# EAGLE library part S25FLXXXK (library lib_stankus)
Spansion S25FLxxxK flash memory Farnell 2340553, 2340554
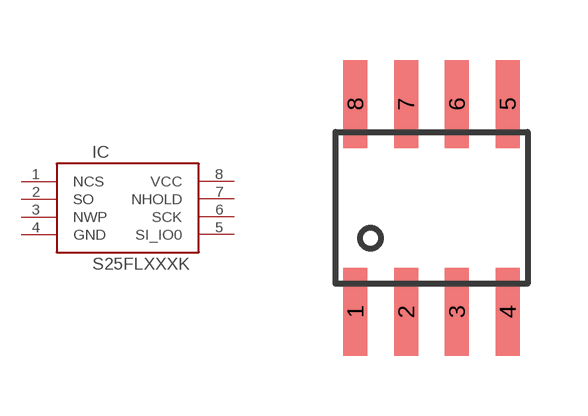
[diagram p85: symbol with the pads of SOIC8; footprint SOIC8]

Designator prefix IC

## S25FLXXXK-SOIC8  [SOIC8]
1  NCS  pas
2  SO  pas
3  NWP  pas
4  GND  pas
5  SI_IO0  pas
6  SCK  pas
7  NHOLD  pas
8  VCC  pas

## Footprint SOIC8 (pad centres in mm)
SOIC8
smd 0.6 x 2.2: 1 -1.905,-2.6; 2 -0.635,-2.6; 3 0.635,-2.6; 4 1.905,-2.6; 5 1.905,2.6; 6 0.635,2.6; 7 -0.635,2.6; 8 -1.905,2.6